# EAGLE library part LTC2499 (library CougsInSpace)
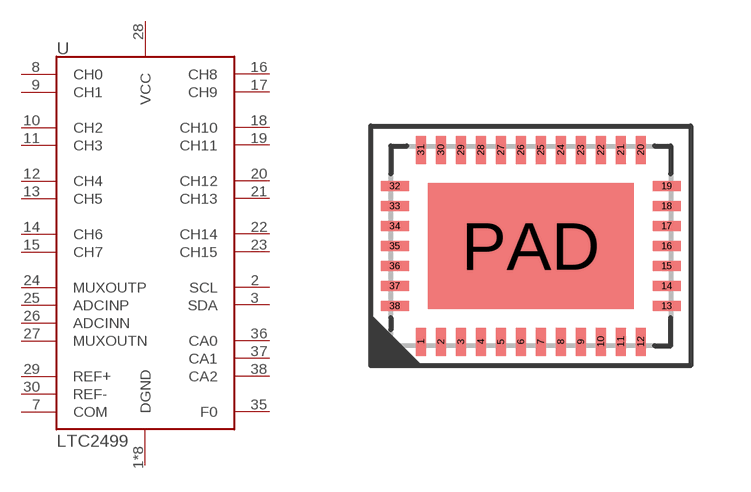
[diagram p10: symbol with the pads of QFN38-5X7; footprint QFN38-5X7]

Designator prefix U

## LTC2499  [QFN38-5X7]
1  DGND  pwr
2  SCL
3  SDA
4  DGND  pwr
6  DGND  pwr
7  COM  in
8  CH0  pas
9  CH1  pas
10  CH2  pas
11  CH3  pas
12  CH4  pas
13  CH5  pas
14  CH6  pas
15  CH7  pas
16  CH8  pas
17  CH9  pas
18  CH10  pas
19  CH11  pas
20  CH12  pas
21  CH13  pas
22  CH14  pas
23  CH15  pas
24  MUXOUTP
25  ADCINP
26  ADCINN
27  MUXOUTN
28  VCC  pwr
29  REF+  in
30  REF-  in
31  DGND  pwr
32  DGND  pwr
33  DGND  pwr
34  DGND  pwr
35  F0  pas
36  CA0
37  CA1
38  CA2
PAD  DGND  pwr

## Footprint QFN38-5X7 (pad centres in mm)
smd 0.25 x 0.7: 1 -2.75,-2.4; 2 -2.25,-2.4; 3 -1.75,-2.4; 4 -1.25,-2.4; 5 -0.75,-2.4; 6 -0.25,-2.4; 7 0.25,-2.4; 8 0.75,-2.4; 9 1.25,-2.4; 10 1.75,-2.4; 11 2.25,-2.4; 12 2.75,-2.4; 20 2.75,2.4; 21 2.25,2.4; 22 1.75,2.4; 23 1.25,2.4; 24 0.75,2.4; 25 0.25,2.4; 26 -0.25,2.4; 27 -0.75,2.4; 28 -1.25,2.4; 29 -1.75,2.4; 30 -2.25,2.4; 31 -2.75,2.4
smd 0.7 x 0.25: 13 3.4,-1.5; 14 3.4,-1; 15 3.4,-0.5; 16 3.4,0; 17 3.4,0.5; 18 3.4,1; 19 3.4,1.5; 32 -3.4,1.5; 33 -3.4,1; 34 -3.4,0.5; 35 -3.4,0; 36 -3.4,-0.5; 37 -3.4,-1; 38 -3.4,-1.5
smd 5.15 x 3.15: PAD 0,0